# EAGLE library part JOHANSON_BALUN_2450BM14A0002T (library CrazyRemote)
2.45 GHz Impedance Matched Balun-Filter: Optimized for Nordic's Chipset nRF24L01, nRF24L01+, nRF24LE1, nRF24LU1, nRF24AP2, and nRF8001 Datasheet via Farnell , take into account the 2.2NF cap
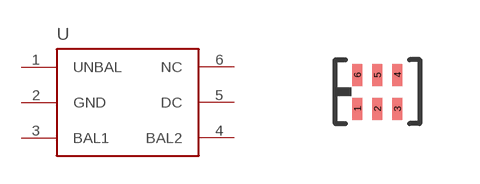
[diagram p8: symbol with the pads of JOHANSON_BALUN_2450BM14A0002T; footprint JOHANSON_BALUN_2450BM14A0002T]

Designator prefix -

## JOHANSON_BALUN_2450BM14A0002T (FARNELL_OC: 2148533; FREQUENCY: 2400-2500mhz; UNBALIMPEDANCE: 50 ohm)  [JOHANSON_BALUN_2450BM14A0002T]
1  UNBAL
2  GND
3  BAL1
4  BAL2
5  DC
6  NC

## Footprint JOHANSON_BALUN_2450BM14A0002T (pad centres in mm)
smd 0.25 x 0.55: 1 -0.5,-0.425; 2 0,-0.425; 3 0.5,-0.425; 4 0.5,0.425; 5 0,0.425; 6 -0.5,0.425